# Altium integrated library MAX232N.IntLib: 1 symbol
Pins are listed as number, name and electrical type; pins without a type are passive.

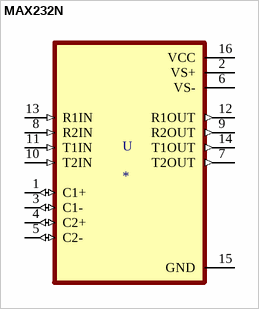
[diagram p0: symbol MAX232N]

## MAX232N
designator U
Dual EIA-232 Driver/Receiver; MP: MAX232N; MF: Texas Instruments; Availability: Unavailable; DigiKey-Purchase-URL: https://snapeda.com/shop?store=DigiKey&id=552531; SnapEDA_Link: https://www.snapeda.com/parts/MAX232N/Texas%20Instruments/view-part/552531/?ref=snap; Mouser-Purchase-URL: https://snapeda.com/shop?store=Mouser&id=552531; Value: *; Price: None; Package: PDIP-16 Texas Instruments
footprint DIP794W45P254L1969H508Q16
pins: 1 C1+ (io), 2 VS+ (power), 3 C1- (io), 4 C2+ (io), 5 C2- (io), 6 VS- (power), 7 T2OUT (out), 8 R2IN (in), 9 R2OUT (out), 10 T2IN (in), 11 T1IN (in), 12 R1OUT (out), 13 R1IN (in), 14 T1OUT (out), 15 GND (power), 16 VCC (power)